# Altium schematic symbol library ME6206A30M3G.SchLib: 1 symbol
Pins are listed as number, name and electrical type; pins without a type are passive.

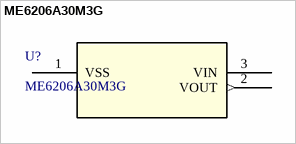
[diagram p0: symbol ME6206A30M3G]

## ME6206A30M3G
designator U?
Description; Manufacturer_Name: MICRONE; Copyright: Copyright (C) 2025 Ultra Librarian. All rights reserved.; Manufacturer_Part_Number: ME6206A30M3G; RefDes: RefDes; Type: Type
footprint DIO_ME6206A30M3G_MNM
pins: 1 VSS (power), 2 VOUT (out), 3 VIN